# Altium schematic symbol library ERA-3AEB121V.SchLib: 1 symbol
Pins are listed as number, name and electrical type; pins without a type are passive.

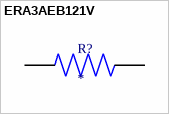
[diagram p0: symbol ERA3AEB121V]

## ERA3AEB121V
designator R?
MP: ERA3AEB121V; MF: {'manufacturer': u'Panasonic'}; Price: None; Availability: Unavailable; Value: *; Package: None
footprint RES_ERA3AEB121V
pins: 1, 2